# Altium schematic symbol library Soldeer Station Library.SchLib: 29 symbols
Pins are listed as number, name and electrical type; pins without a type are passive.

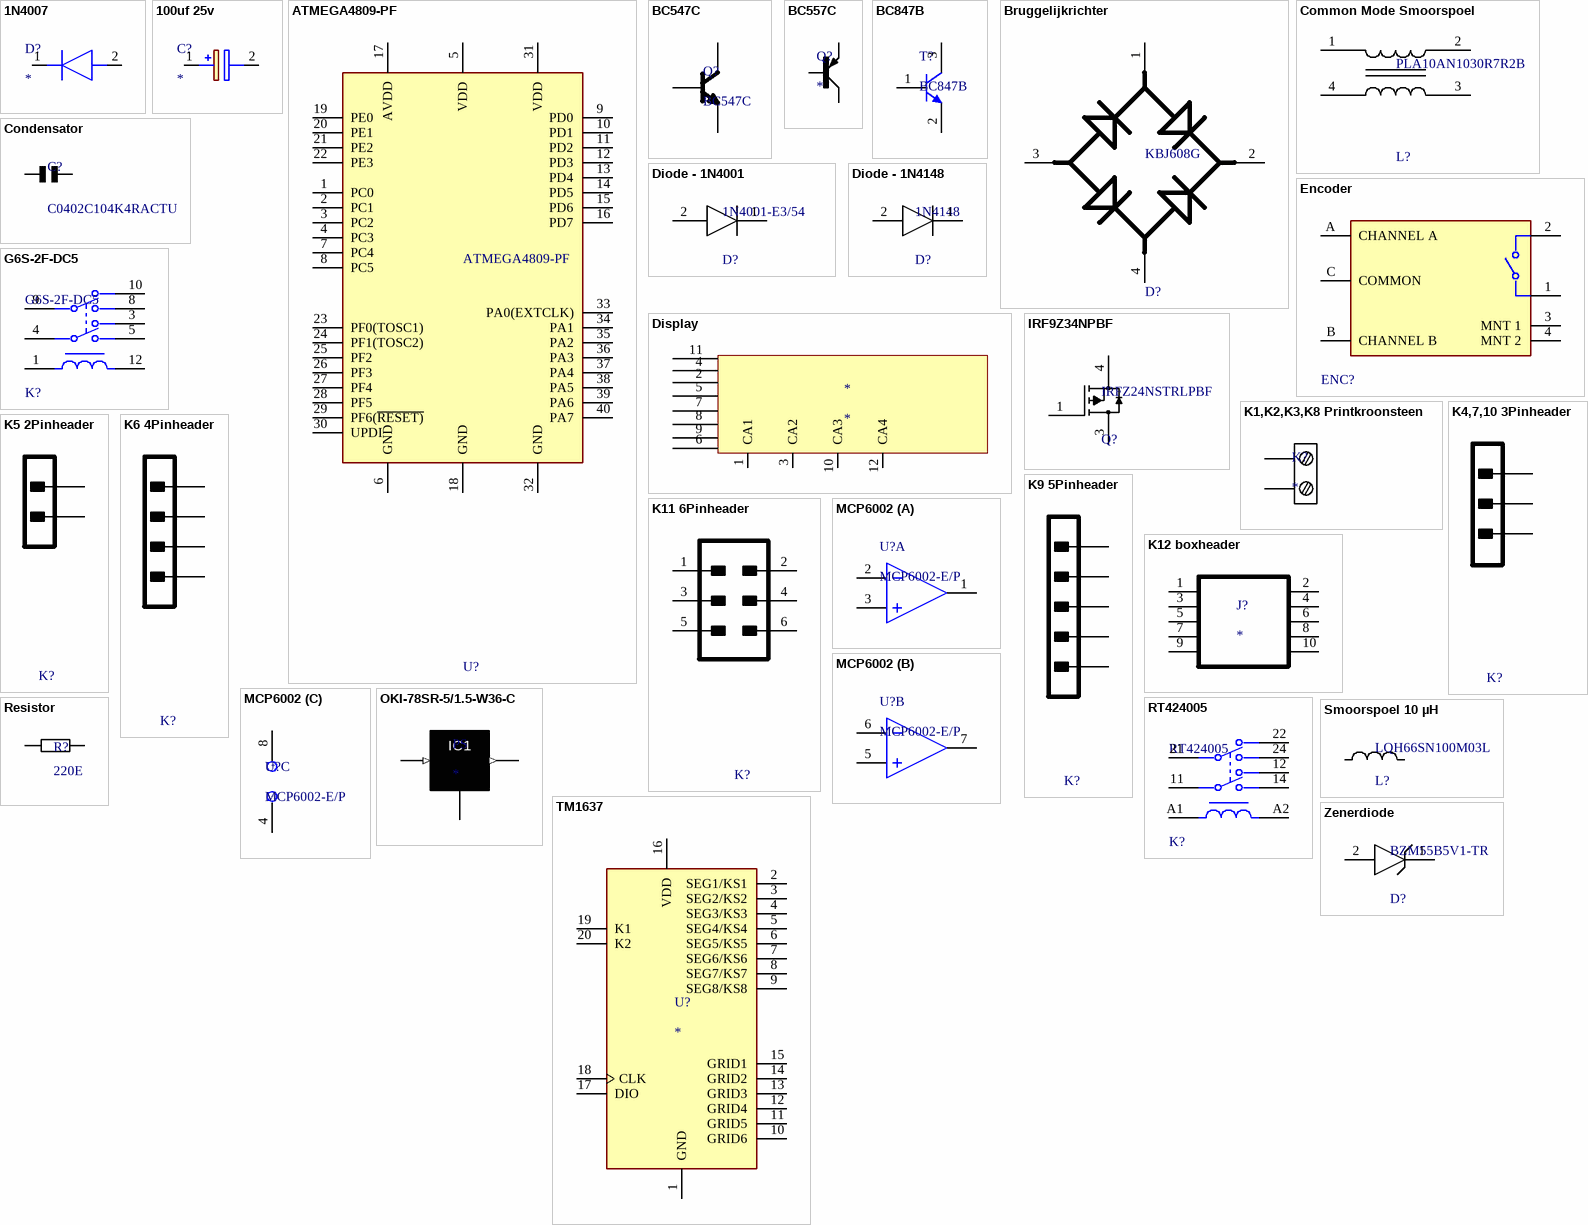
[diagram p0: symbols 1N4007 to Zenerdiode]

## 1N4007
designator D?
Diode; Manufacturer_Name: Vishay; Manufacturer_Part_Number: 1N4007-E3/73; Datasheet Link: https://mouser.componentsearchengine.com/Datasheets/2/1N4007-E3_73.pdf; Mouser Part Number: 625-1N4007-E3/73; Mouser Price/Stock: https://www.mouser.co.uk/ProductDetail/Vishay-General-Semiconductor/1N4007-E3-73?qs=N4vtoAxH%2FSqT3Ng3e4K0Gw%3D%3D; Arrow Part Number: 1N4007-E3/73; Arrow Price/Stock: https://www.arrow.com/en/products/1n4007-e373/vishay?region=europe
footprint DIOAD1405W86L465D235
footprint 1N4007-new
pins: 1 K, 2 A

## 100uf 25v
designator C?
Capacitor Polarised; Manufacturer_Name: Chemi-Con; Manufacturer_Part_Number: ESMG250ELL101MF11D; Datasheet Link: http://www.chemi-con.co.jp/cgi-bin/CAT_DB/SEARCH/cat_db_al.cgi?e=e&j=p&pdfname=smg; Height: 12.5mm; Mouser Part Number: 661-ESMG250ELL101MF; Mouser Price/Stock: https://www.mouser.co.uk/ProductDetail/Chemi-Con/ESMG250ELL101MF11D?qs=46VwSHQt9xX2tXRf6ZkiIw%3D%3D; Arrow Part Number: ESMG250ELL101MF11D; Arrow Price/Stock: https://www.arrow.com/en/products/esmg250ell101mf11d/united-chemi-con?region=nac
footprint CAPPRD250W50D655H1250
footprint 100uf 25v
pins: 1 +, 2 -

## ATMEGA4809-PF
designator U?
RoHS Compliant: Yes
footprint FP-C04-016-MFG
footprint ATmega4809-PF
pins: 1 PC0, 2 PC1, 3 PC2, 4 PC3, 5 VDD (power), 6 GND (power), 7 PC4, 8 PC5, 9 PD0, 10 PD1, 11 PD2, 12 PD3, 13 PD4, 14 PD5, 15 PD6, 16 PD7, 17 AVDD (power), 18 GND (power), 19 PE0, 20 PE1, 21 PE2, 22 PE3, 23 PF0(TOSC1), 24 PF1(TOSC2), 25 PF2, 26 PF3, 27 PF4, 28 PF5, 29 PF6(~{RESET)}, 30 UPDI, 31 VDD (power), 32 GND (power), 33 PA0(EXTCLK), 34 PA1, 35 PA2, 36 PA3, 37 PA4, 38 PA5, 39 PA6, 40 PA7

## BC547C
designator Q?
Manufacturer: On Semiconductor; IC Continuous (A): 0.1; fT Min (MHz): 150; Packing: Bulk Box; Polarity: NPN; Mounting Technology: Through Hole; ComponentLink1URL: http://www.onsemi.com/; ComponentLink1Description: Manufacturer URL; ComponentLink3URL: http://www.onsemi.cn/pub_link/Collateral/2N6426-D.PDF; DatasheetVersion: Rev. 7; PackageVersion: Rev. AM; RoHS: FALSE; PartNumber: BC547C; ComponentLink2URL: http://www.onsemi.com/pub_link/Collateral/BC546-D.PDF; ComponentLink3Description: Package Specification; PackageDescription: 3-Pin Transistor Outline, Body 4.825 x 3.685 mm, Pitch 1.27 mm; PackageReference: TO-92-3-29-11_AM_SL; ComponentLink2Description: Datasheet
footprint ONSC-TO-92-3-29-11 (TO, 3-Leads, Body Dia 4.7mm, Pitch 1.27mm)
footprint SOT54A
footprint BC557C
pins: 1 C, 2 B, 3 E

## BC557C
designator Q?
MP: BC557; MF: ON; Availability: In Stock; Package: E-PKG AXIAL-LEADED-2 ON Semiconductor; Value: *; Check_prices: https://www.snapeda.com/parts/BC557/Onsemi/view-part/?ref=eda; SnapEDA_Link: https://www.snapeda.com/parts/BC557/Onsemi/view-part/?ref=snap; Price: None
footprint SOT54A
footprint BC557C
pins: B, C, E

## BC847B
designator T?
NPN Silicon AF Transistor, 45 V VCEO, 100 mA IC, SOT23, Reel, Green; Manufacturer: Infineon; VEBO (max): 6Â V; ICBO (max): 15Â nA; VCBO (max): 50Â V; IBM (max): 200Â mA; Green: TRUE; Ptot (max): 330Â mW; fT (typ): 250Â MHz; IC (max): 100Â mA; VCEO (max): 45Â V; PackageDescription: 3-Pin Small Outline Transistor Package, 1.3 x 2.9 mm Body, 0.95 mm Pitch; ComponentLink3URL: http://www.infineon.com/dgdl/SOT23-Package_Overview.pdf?folderId=db3a30431936bc4b0119532290053c66&fileId=db3a30431936bc4b0119533468123c85; PackageVersion: Apr-08; Packing: Reel; ComponentLink3Description: Package Specification; ComponentLink2URL: http://www.infineon.com/dgdl/bc847series_bc848series_bc849series_bc850series.pdf?folderId=db3a304314dca389011541d30fa21656&fileId=db3a304314dca389011541d4630a1657; ComponentLink1URL: http://www.infineon.com/; ComponentLink2Description: Datasheet; Polarity: NPN; Mounting Technology: Surface Mount; PackageReference: SOT23; ICM (max): 200Â mA; ComponentLink1Description: Manufacturer URL; PartNumber: BC847B
footprint INF-SOT23_L (SOT23, 3-Leads, Body 2.9x1.3 mm, Pitch 0.95 mm, IPC High Density)
footprint INF-SOT23_M (SOT23, 3-Leads, Body 2.9x1.3 mm, Pitch 0.95 mm, IPC Low Density)
footprint INF-SOT23_N (SOT23, 3-Leads, Body 2.9x1.3 mm, Pitch 0.95 mm, IPC Medium Density)
footprint bc847b (SOT23, 3-Leads, Body 2.9x1.3 mm, Pitch 0.95 mm, IPC High Density)
pins: 1 B, 2 E, 3 C

## Bruggelijkrichter
designator D?, comment KBJ608G
Manufacturer: Diodes; Max Junction Temp: +150°C; Max Surge Forward Current: 170A; Reverse Voltage: 800V; Peak Reverse Current: 5uA; Standoff Height: 3.3mm; Value: 80pF; Forward Current: 3A; Max Repetitive Reverse Voltage: 600V; Mouser Description: Bridge Rectifiers 6.0A 800V; Digikey Description: BRIDGE RECT 1PHASE 800V 6A KBJ; ComponentLink2Description: Datasheet; Manufacturer Part Number: KBJ608G; Device Class L1: Discrete Semiconductors; Octopart: https://octopart.com/kbj608g-diodes+inc.-13390835; Temperature Range Low: -65°C; Temperature: -65°C to +150°C; Automotive: No; ComponentLink2URL: https://www.diodes.com/assets/Datasheets/ds21207.pdf; RoHS: TRUE; Category: Diode; Lead Free: Yes; Footprint Url: https://www.diodes.com/assets/Package-Files/KBJ.pdf; Device Class L2: Diodes; Package: KBJ; Device Class L3: Rectifier Diodes; Capacitance: 80pF; Height: 19mm; Temperature Range High: +150°C
footprint FP-KBJ-MFG
footprint D6KB6U - bruggelijk
pins: 1 +, 2 1 ~, 3 2 ~, 4 -

## Common Mode Smoorspoel
designator L?, comment PLA10AN1030R7R2B
Lead Diameter: 0.9mm; Voltage Rating (DC): 300V; Current: 700mA; Inductance: 10mH; Lead/Base Style: Pin; DC Resistance (DCR): 100mR; Shielding: Unshielded; Number of Lines: 2; Packaging: Bulk; Max Operating Temperature: 120°C; Depth: 16mm; Width: 0.63inch; Radiation Hardening: No; Max DC Current: 700mA; Package Quantity: 1260; Height: 17.5mm; Current Rating: 700mA; Military Standard: Not; Lead Free: Lead Free; Orientation: Vertical; DC Current: 700mA; Termination: Radial; Insulation Resistance: 100MR; Length: 18mm; Mount: Through Hole; Lead Pitch: 13mm; Min Operating Temperature: -25°C; REACH SVHC: No SVHC
footprint FP-PLA10A-PLH10A-MFG
footprint CM2545x171B-10
pins: 1, 2, 3, 4

## Condensator
designator C?, comment C0402C104K4RACTU
Manufacturer: Kemet; Part Number: C0402C104K4RACTU
footprint CAPC1005X55X30ML05T10 (Chip Capacitor, 2-Leads, Body 1.00x0.50mm, IPC Low Density)
footprint CAPC1005X55X30LL05T10 (Chip Capacitor, 2-Leads, Body 1.00x0.50mm, IPC High Density)
footprint CAPC1005X55X30NL05T10 (Chip Capacitor, 2-Leads, Body 1.00x0.50mm, IPC Medium Density)
footprint Condensator
footprint Capacitor (Chip Capacitor, 2-Leads, Body 1.60x0.80mm, IPC High Density)
pins: 1, 2
1 alternate drawing of the same symbol

## Diode - 1N4001
designator D?, comment 1N4001-E3/54
Max Surge Current: 30A; Forward Voltage: 1.1V; Average Rectified Current: 1A; Voltage: 50V; Capacitance: 15pF; Peak Non-Repetitive Surge Current: 45A; Polarity: Standard; Max Reverse Current: 5uA; Element Configuration: Single; Length: 0.204inch; Diameter: 2.7mm; Mount: Through Hole; Package Quantity: 5500; Series: -; Radiation Hardening: No; Width: 2.7mm; Max Forward Surge Current (Ifsm): 30A; Current Rating: 1A; Height: 2.7mm; Forward Current: 1A; Lead Free: Lead Free; Min Operating Temperature: -50°C; Number of Pins: 2; RoHS Compliant: Yes; Packaging: Tape and Reel; Current: 1A; Max Reverse Voltage (DC): 50V; Output Current: 1A; Reverse Voltage: 50V; Case/Package: DO-204AL; Max Repetitive Reverse Voltage (Vrrm): 50V; Voltage Rating (DC): 50V; Max Operating Temperature: 150°C
footprint FP-1N4001-E3-54-MFG
footprint 1N4007
pins: 1 C, 2 A

## Diode - 1N4148
designator D?, comment 1N4148
Reverse Voltage: 100V; Forward Voltage: 1V; Max Power Dissipation: 500mW; Average Rectified Current: 200mA; Max Reverse Current: 5uA; Forward Current: 300mA; Current: 4A; Reverse Recovery Time: 4ns; Element Configuration: Single; Outside Diameter: 1.85mm; Polarity: Standard; Max Forward Surge Current (Ifsm): 1A; Capacitance: 4pF; Diameter: 1.91mm; Max Repetitive Reverse Voltage (Vrrm): 100V; Current Rating: 200mA; Case/Package: DO-35; Lead Free: Lead Free; Number of Pins: 2; Recovery Time: 4ns; Packaging: Bulk; Contact Plating: Tin; Voltage: 100V; Mount: Through Hole; Max Surge Current: 4A; Package Quantity: 2000; Width: 1.91mm; Max Reverse Voltage (DC): 100V; Length: 4.56mm; Radiation Hardening: No; Power Dissipation: 500mW; Voltage Rating (DC): 100V; REACH SVHC: No SVHC; Height: 4.56mm; Max Operating Temperature: 175°C; Series: -; Weight: 0.01lb; Min Operating Temperature: -65°C; Output Current: 200mA; Peak Non-Repetitive Surge Current: 4A
footprint FP-017AG-MFG
footprint 1N4148
pins: 1 C, 2 A

## Display
designator *
footprint DIP12
pins: 1 CA1, 2, 3 CA2, 4, 5, 6, 7, 8, 9, 10 CA3, 11, 12 CA4

## Encoder
designator ENC?
Encoder Type: Mechanical; Detent: Yes; Hole Diameter: 1.8mm; Number of Channels: 2; Pulses per Revolution: 12; Output Type: Quadrature; Max Operating Temperature: 70°C; Packaging: Bulk; Orientation: Vertical; REACH SVHC: No SVHC; Series: PEC11R; Height: 13.4mm; RoHS Compliant: Yes; Termination: PC Pin; Mount: Through Hole; Package Quantity: 75; Built in Switch: Yes; Length: 36.5mm; Width: 12.5mm; Min Operating Temperature: -30°C
footprint FP-PEC11R-4230F-S0012-MFG
footprint Encoder
pins: 1, 2, 3 MNT 1, 4 MNT 2, A CHANNEL A, B CHANNEL B, C COMMON

## G6S-2F-DC5
designator K?
Manufacturer: Omron; Coil Resistance: 178Ω; Switching Current: 2A; Coil Current: 28.1mA; Throw Configuration: DPDT; Coil Voltage: 5V; Standoff Height: 0.35mm; Coil Power: 140mW; Coil Type: Non-Latching; Number Of Contacts: 2; RoHS: TRUE; Device Class L3: Signal Relays; Ambient Temperature Range Low: -40°C; Device Class L1: Electromechanical; Lead Free: Yes; Category: Relay; Digikey Description: RELAY TELECOM DPDT 2A 5VDC; Height: 9.4mm; Temperature: -40°C to +85°C; Octopart: https://octopart.com/g6s-2f-dc5-omron-85236; Package: G6S-2F-DC5; Temperature Range High: +85°C; Automotive: No; Current Rating: 2A; Manufacturer Part Number: G6S-2F-DC5; Mouser Description: Electromechanical Relay 5VDC 178Ohm 2A DPDT (14.8x9.2x9.2)mm SMD Signal Relay; Temperature Range Low: -40°C; Device Class L2: Relays; Ambient Temperature Range High: +85°C; ComponentLink2URL: https://omronfs.omron.com/en_US/ecb/products/pdf/en-g6s.pdf; ComponentLink2Description: Datasheet
footprint FP-G6S-2F-DC5-MFG
footprint G6S-2F-DC5
footprint G6S-2F-DC5
pins: 1, 3, 4, 5, 8, 9, 10, 12

## IRF9Z34NPBF
designator Q?, comment IRFZ24NSTRLPBF
Element Configuration: Single; Turn-On Delay Time: 4.9ns; Power Dissipation: 45W; Gate to Source Voltage (Vgs): 20V; Input Capacitance: 370pF; Max Dual Supply Voltage: 55V; Turn-Off Delay Time: 19ns; Max Power Dissipation: 3.8W; Continuous Drain Current (ID): 17A; Drain to Source Resistance: 70mR; Min Operating Temperature: -55°C; Lead Free: Contains Lead; Mount: Surface Mount; Max Operating Temperature: 175°C; Packaging: Tape and Reel; Height: 0.185inch; Drain to Source Voltage (Vdss): 55V; Case/Package: D2PAK; RoHS Compliant: Yes; Number of Pins: 3; Rds On Max: 70mR; Width: 0.38inch; Halogen Free: Halogen Free; Length: 0.42inch
footprint FP-PG-TO263-3-MFG
footprint IRF9Z34NPBF
pins: 1 GATE, 3 SOURCE, 4 DRAIN

## K1,K2,K3,K8 Printkroonsteen
designator K?
MF: TE Connectivity; MP: 282837-2; SnapEDA_Link: https://www.snapeda.com/parts/282837-2/TE+Connectivity+AMP+Connectors/view-part/?ref=snap; Price: None; Check_prices: https://www.snapeda.com/parts/282837-2/TE+Connectivity+AMP+Connectors/view-part/?ref=eda; Purchase-URL: https://pricing.snapeda.com/search/part/282837-2/?ref=eda; Value: *; Availability: In Stock; Package: None
footprint TE_282837-2
footprint K1,K2,K3,K8 Printkroonsteen
pins: 1, 2

## K4,7,10 3Pinheader
designator K?
NexarPartId: 278173; Voltage Rating: 250V; Number of Contacts: 5; Contact Resistance: 20mΩ; Gender: Male; Pitch: 2.54mm; Connector Type: Male Pin; Current Rating: 4A; Glow Wire Compliant: Non-compliant; Max Voltage Rating (DC): 250.25kV; Flammability Rating: UL94 V-0; Min Operating Temperature: 0°C; REACH SVHC: Unknown; Lead Free: Lead Free; Termination: Solder; RoHS: Compliant; Schedule B: 8536694040|8536694040|8536694040|8536694040|8536694040|8536694040|8536694040|8536694040|8536694040|8536694040|8536694040|8536694040|8536694040|8536694040|8536694040|8536694040|8536694040|8536694040|8536694040|8536694040|8536694040|8536694040|8536694040|85; Number of Circuits: 5; Mount: Through Hole; Lead Pitch: 2.54mm; Height: 2.29mm; Voltage Rating (DC): 250V; Max Operating Temperature: 75°C; Width: 2.49mm; Radiation Hardening: No; Contact Plating: Tin; Orientation: Vertical; Length: 12.7mm; Number of Rows: 1; Housing Material: Thermoplastic; Contact Material: Brass; Packaging: Bulk; Contact Mating Length: 6.096mm; Housing Color: Black; Color: Black; Number of Positions: 5
footprint FP-22-28-4050-MFG
footprint K4,7,10 3Pinheader
pins: 1, 2, 3

## K5 2Pinheader
designator K?
NexarPartId: 278173; Voltage Rating: 250V; Number of Contacts: 5; Contact Resistance: 20mΩ; Gender: Male; Pitch: 2.54mm; Connector Type: Male Pin; Current Rating: 4A; Glow Wire Compliant: Non-compliant; Max Voltage Rating (DC): 250.25kV; Flammability Rating: UL94 V-0; Min Operating Temperature: 0°C; REACH SVHC: Unknown; Lead Free: Lead Free; Termination: Solder; RoHS: Compliant; Schedule B: 8536694040|8536694040|8536694040|8536694040|8536694040|8536694040|8536694040|8536694040|8536694040|8536694040|8536694040|8536694040|8536694040|8536694040|8536694040|8536694040|8536694040|8536694040|8536694040|8536694040|8536694040|8536694040|8536694040|85; Number of Circuits: 5; Mount: Through Hole; Lead Pitch: 2.54mm; Height: 2.29mm; Voltage Rating (DC): 250V; Max Operating Temperature: 75°C; Width: 2.49mm; Radiation Hardening: No; Contact Plating: Tin; Orientation: Vertical; Length: 12.7mm; Number of Rows: 1; Housing Material: Thermoplastic; Contact Material: Brass; Packaging: Bulk; Contact Mating Length: 6.096mm; Housing Color: Black; Color: Black; Number of Positions: 5
footprint FP-22-28-4050-MFG
footprint K5 2Pinheader
pins: 1, 2

## K6 4Pinheader
designator K?
NexarPartId: 278173; Voltage Rating: 250V; Number of Contacts: 5; Contact Resistance: 20mΩ; Gender: Male; Pitch: 2.54mm; Connector Type: Male Pin; Current Rating: 4A; Glow Wire Compliant: Non-compliant; Max Voltage Rating (DC): 250.25kV; Flammability Rating: UL94 V-0; Min Operating Temperature: 0°C; REACH SVHC: Unknown; Lead Free: Lead Free; Termination: Solder; RoHS: Compliant; Schedule B: 8536694040|8536694040|8536694040|8536694040|8536694040|8536694040|8536694040|8536694040|8536694040|8536694040|8536694040|8536694040|8536694040|8536694040|8536694040|8536694040|8536694040|8536694040|8536694040|8536694040|8536694040|8536694040|8536694040|85; Number of Circuits: 5; Mount: Through Hole; Lead Pitch: 2.54mm; Height: 2.29mm; Voltage Rating (DC): 250V; Max Operating Temperature: 75°C; Width: 2.49mm; Radiation Hardening: No; Contact Plating: Tin; Orientation: Vertical; Length: 12.7mm; Number of Rows: 1; Housing Material: Thermoplastic; Contact Material: Brass; Packaging: Bulk; Contact Mating Length: 6.096mm; Housing Color: Black; Color: Black; Number of Positions: 5
footprint FP-22-28-4050-MFG
footprint K6 4Pinheader
pins: 1, 2, 3, 4

## K9 5Pinheader
designator K?
NexarPartId: 278173; Voltage Rating: 250V; Number of Contacts: 5; Contact Resistance: 20mΩ; Gender: Male; Pitch: 2.54mm; Connector Type: Male Pin; Current Rating: 4A; Glow Wire Compliant: Non-compliant; Max Voltage Rating (DC): 250.25kV; Flammability Rating: UL94 V-0; Min Operating Temperature: 0°C; REACH SVHC: Unknown; Lead Free: Lead Free; Termination: Solder; RoHS: Compliant; Schedule B: 8536694040|8536694040|8536694040|8536694040|8536694040|8536694040|8536694040|8536694040|8536694040|8536694040|8536694040|8536694040|8536694040|8536694040|8536694040|8536694040|8536694040|8536694040|8536694040|8536694040|8536694040|8536694040|8536694040|85; Number of Circuits: 5; Mount: Through Hole; Lead Pitch: 2.54mm; Height: 2.29mm; Voltage Rating (DC): 250V; Max Operating Temperature: 75°C; Width: 2.49mm; Radiation Hardening: No; Contact Plating: Tin; Orientation: Vertical; Length: 12.7mm; Number of Rows: 1; Housing Material: Thermoplastic; Contact Material: Brass; Packaging: Bulk; Contact Mating Length: 6.096mm; Housing Color: Black; Color: Black; Number of Positions: 5
footprint FP-22-28-4050-MFG
footprint K9 5Pinheader
footprint K9 5Pinheader
pins: 1, 2, 3, 4, 5

## K11 6Pinheader
designator K?
NexarPartId: 278173; Voltage Rating: 250V; Number of Contacts: 5; Contact Resistance: 20mΩ; Gender: Male; Pitch: 2.54mm; Connector Type: Male Pin; Current Rating: 4A; Glow Wire Compliant: Non-compliant; Max Voltage Rating (DC): 250.25kV; Flammability Rating: UL94 V-0; Min Operating Temperature: 0°C; REACH SVHC: Unknown; Lead Free: Lead Free; Termination: Solder; RoHS: Compliant; Schedule B: 8536694040|8536694040|8536694040|8536694040|8536694040|8536694040|8536694040|8536694040|8536694040|8536694040|8536694040|8536694040|8536694040|8536694040|8536694040|8536694040|8536694040|8536694040|8536694040|8536694040|8536694040|8536694040|8536694040|85; Number of Circuits: 5; Mount: Through Hole; Lead Pitch: 2.54mm; Height: 2.29mm; Voltage Rating (DC): 250V; Max Operating Temperature: 75°C; Width: 2.49mm; Radiation Hardening: No; Contact Plating: Tin; Orientation: Vertical; Length: 12.7mm; Number of Rows: 1; Housing Material: Thermoplastic; Contact Material: Brass; Packaging: Bulk; Contact Mating Length: 6.096mm; Housing Color: Black; Color: Black; Number of Positions: 5
footprint FP-22-28-4050-MFG
footprint K11 6Pinheader
pins: 1, 2, 3, 4, 5, 6

## K12 boxheader
designator J?
MP: 5-103169-3; Package: None; Price: None; Value: *; Availability: Unavailable
footprint TE_5-103169-3
footprint K12 boxheader
pins: 1, 2, 3 2, 4 7, 5 3, 6 8, 7 4, 8 9, 9 5, 10

## MCP6002
designator U?, comment MCP6002-E/P
None; Slew Rate: 0.6V/µs; Supply Current: 100uA; Power Supply Rejection Ratio (PSRR): 86dB; Input Offset Voltage (Vos): 4.5mV; Input Bias Current: 1pA; Amplifier Type: GENERAL PURPOSE; Unity Gain Bandwidth Product: 1MHz; Number of Circuits: 2; Output Current: 23mA; Operating Supply Voltage: 5.5V; Min Supply Voltage: 1.8V; Common Mode Rejection Ratio: 60dB; Voltage Gain: 112dB; Max Supply Voltage: 6V; Package Quantity: 60; REACH SVHC: No SVHC; Min Operating Temperature: -40°C; Max Operating Temperature: 125°C; Mount: Through Hole; Nominal Supply Current: 100uA; Height: 3.3mm; Length: 9.27mm; Slew Rate-Nom: 0.6V/µs; Packaging: Rail/Tube; Output Current per Channel: 23mA; Number of Amplifiers: 2; RoHS Compliant: Yes; Radiation Hardening: No; Bandwidth: 1MHz; Lead Free: Lead Free; Width: 6.35mm; Number of Channels: 2; Gain Bandwidth Product: 1MHz; Technology: CMOS; Operating Supply Current: 100uA; Number of Elements: 2; Number of Pins: 8; Input Offset Voltage-Max: 4.5mV; Case/Package: PDIP
footprint PDIP300-P8 (8-Pin Plastic Dual In-Line Package (PDIP))
footprint MCP6002 (8-Pin Plastic Dual In-Line Package (PDIP))
part A pins: 1 VOUTA, 2 VINA-, 3 VINA+
part B pins: 5 VINB+, 6 VINB-, 7 VOUTB
part C pins: 4 VINA+, 8 VINA-
part C text: +; -

## OKI-78SR-5/1.5-W36-C
designator PS
MF: Murata Power; MP: OKI-78SR-5/1.5-W36-C; Availability: Unavailable; Price: None; Package: SIP-3 Murata Power; Value: *; SnapEDA_Link: https://www.snapeda.com/parts/OKI-78SR-5/1.5-W36-C/Murata%20Power%20Solutions%20Inc./view-part/229597/?ref=snap
footprint OKI-78SR-5/1.5-W36-C
pins: 1 IN (in), 2 COM/GND (power), 3 OUT (out)
text: IC1

## Resistor
designator R?, comment 220E
Manufacturer: Vishay Dale; Part Number: CRCW08050000Z0EA
footprint Resistor (Chip Resistor, 2-Leads, Body 2,00x1,25mm, IPC Medium Density)
pins: 1, 2
1 alternate drawing of the same symbol

## RT424005
designator K?
Manufacturer: TE Connectivity; Coil Power: 403mW; Throw Configuration: DPDT; Coil Voltage: 5V; Number Of Contacts: 2; Coil Resistance: 62Ω; Current Rating: 8A; Coil Type: Non-Latching; Manufacturer Part Number: RT424005; Category: Relay; Octopart: https://octopart.com/5-1393243-9-te+connectivity-41835766; Device Class L3: Power Relays; ComponentLink2URL: https://www.te.com/commerce/DocumentDelivery/DDEController?Action=showdoc&DocId=Data+Sheet%7FRT2%7F1014%7Fpdf%7FEnglish%7FENG_DS_RT2_1014.pdf%7F5-1393243-9; Ambient Temperature Range High: +85°C; ComponentLink2Description: Datasheet; Digikey Description: RELAY GENERAL PURPOSE DPDT 8A 5V; Package: RT424005; Automotive: No; Device Class L1: Electromechanical; Height: 15.7mm; Device Class L2: Relays; Ambient Temperature Range Low: -40°C; Mouser Description: General Purpose Relay, Rt2 Series, Power, Non Latching, Dpdt, 5 Vdc, 8 A Rohs Compliant: Yes; Lead Free: Yes; RoHS: TRUE
footprint RT424005
pins: 11, 12, 14, 21, 22, 24, A1, A2

## Smoorspoel 10 µH
designator L?, comment LQH66SN100M03L
Test Frequency: 1MHz; Max DC Current: 1.6A; Inductance Tolerance: 20%; Core Material: Ferrite; Self Resonant Frequency: 20MHz; DC Resistance (DCR): 36mR; Inductance: 10uH; Shielding: Shielded; Radiation Hardening: No; Height: 4.7mm; Lead Free: Lead Free; Current Rating: 1.6A; Length: 0.248inch; REACH SVHC: No SVHC; Military Standard: Not; Max Operating Temperature: 80°C; Packaging: Tape and Reel; Height - Seated (Max): 0.197inch; Depth: 6.6mm; Width: 6.3mm; Package Quantity: 350; Case Code (Metric): 6363; Resistor Type: Wirewound; DC Current: 1.6A; Weight: 0.025045oz; Case/Package: 2525; Termination: SMD/SMT; Min Operating Temperature: -25°C; Tolerance: 20%; Case Code (Imperial): 2525; Mount: Surface Mount
footprint FP-LQH66SN_03-MFG
footprint Smoorspoel
pins: 1, 2

## TM1637
designator U?
MF: Titan Micro Electronics; MP: TM1637; Package: Package; Availability: Not in stock; SnapEDA_Link: https://www.snapeda.com/parts/TM1637/Titan+Micro+Electronics/view-part/?ref=snap; Check_prices: https://www.snapeda.com/parts/TM1637/Titan+Micro+Electronics/view-part/?ref=eda; Value: *; Price: None
footprint DIP778W43P254L2612H431Q20N
footprint TM1637
pins: 1 GND (power), 2 SEG1/KS1, 3 SEG2/KS2, 4 SEG3/KS3, 5 SEG4/KS4, 6 SEG5/KS5, 7 SEG6/KS6, 8 SEG7/KS7, 9 SEG8/KS8, 10 GRID6, 11 GRID5, 12 GRID4, 13 GRID3, 14 GRID2, 15 GRID1, 16 VDD (power), 17 DIO, 18 CLK, 19 K1, 20 K2

## Zenerdiode
designator D?, comment BZM55B5V1-TR
Zener Voltage: 5.1V; Element Configuration: Single; Impedance: 60R; ESD Protection: No; Voltage Tolerance: 2%; Power Dissipation: 500mW; Max Reverse Leakage Current: 100nA; Test Current: 5mA; Max Operating Temperature: 175°C; Series: -; Package Quantity: 12500; Min Operating Temperature: -65°C; Radiation Hardening: No; RoHS Compliant: Yes; Contact Plating: Tin; Max Power Dissipation: 500mW; Number of Pins: 2; Packaging: Tape and Reel; Mount: Surface Mount; Case/Package: SMD/SMT
footprint FP-6_560-5007_01-4-MFG
footprint Zenerdiode
pins: 1 C, 2 A